# EAGLE library part DEBUG-CONNECTOR (library ScottsLib)
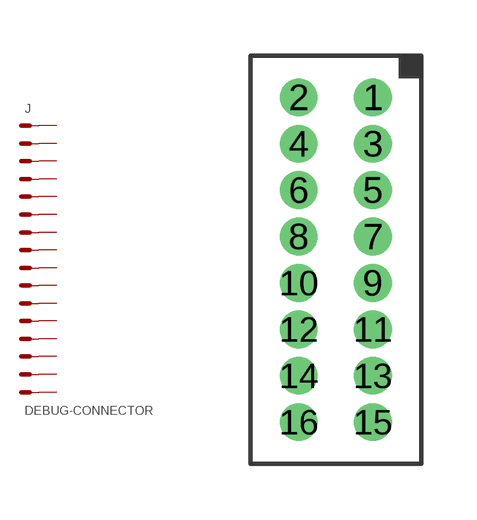
[diagram p0: symbol with the pads of JST-16R-JED; footprint JST-16R-JED]

Designator prefix J

## DEBUG-CONNECTOR  [JST-16R-JED]
1  3.3V  pwr
2  TDO
3  TDI
4  !RESET
5  TMS
6  PORT2.10/!EINT0
7  !TRST
8  RTCK
9  !RSTOUT
10  PORT0.3/RXD0
11  TCK
12  PORT0.2/TXD0
13  DEBUG.13  pas
14  DEBUG.14  pas
15  DEBUG.15  pas
16  GRND  pwr

## Footprint JST-16R-JED (pad centres in mm)
drill 0.508 pad 1.016 round: 1 2,4.375; 2 0,4.375; 3 2,3.125; 4 0,3.125; 5 2,1.875; 6 0,1.875; 7 2,0.625; 8 0,0.625; 9 2,-0.625; 10 0,-0.625; 11 2,-1.875; 12 0,-1.875; 13 2,-3.125; 14 0,-3.125; 15 2,-4.375; 16 0,-4.375